# Altium integrated library Lattice CPLD ispMACH 4000C.IntLib: 180 symbols (part 7 of 28)
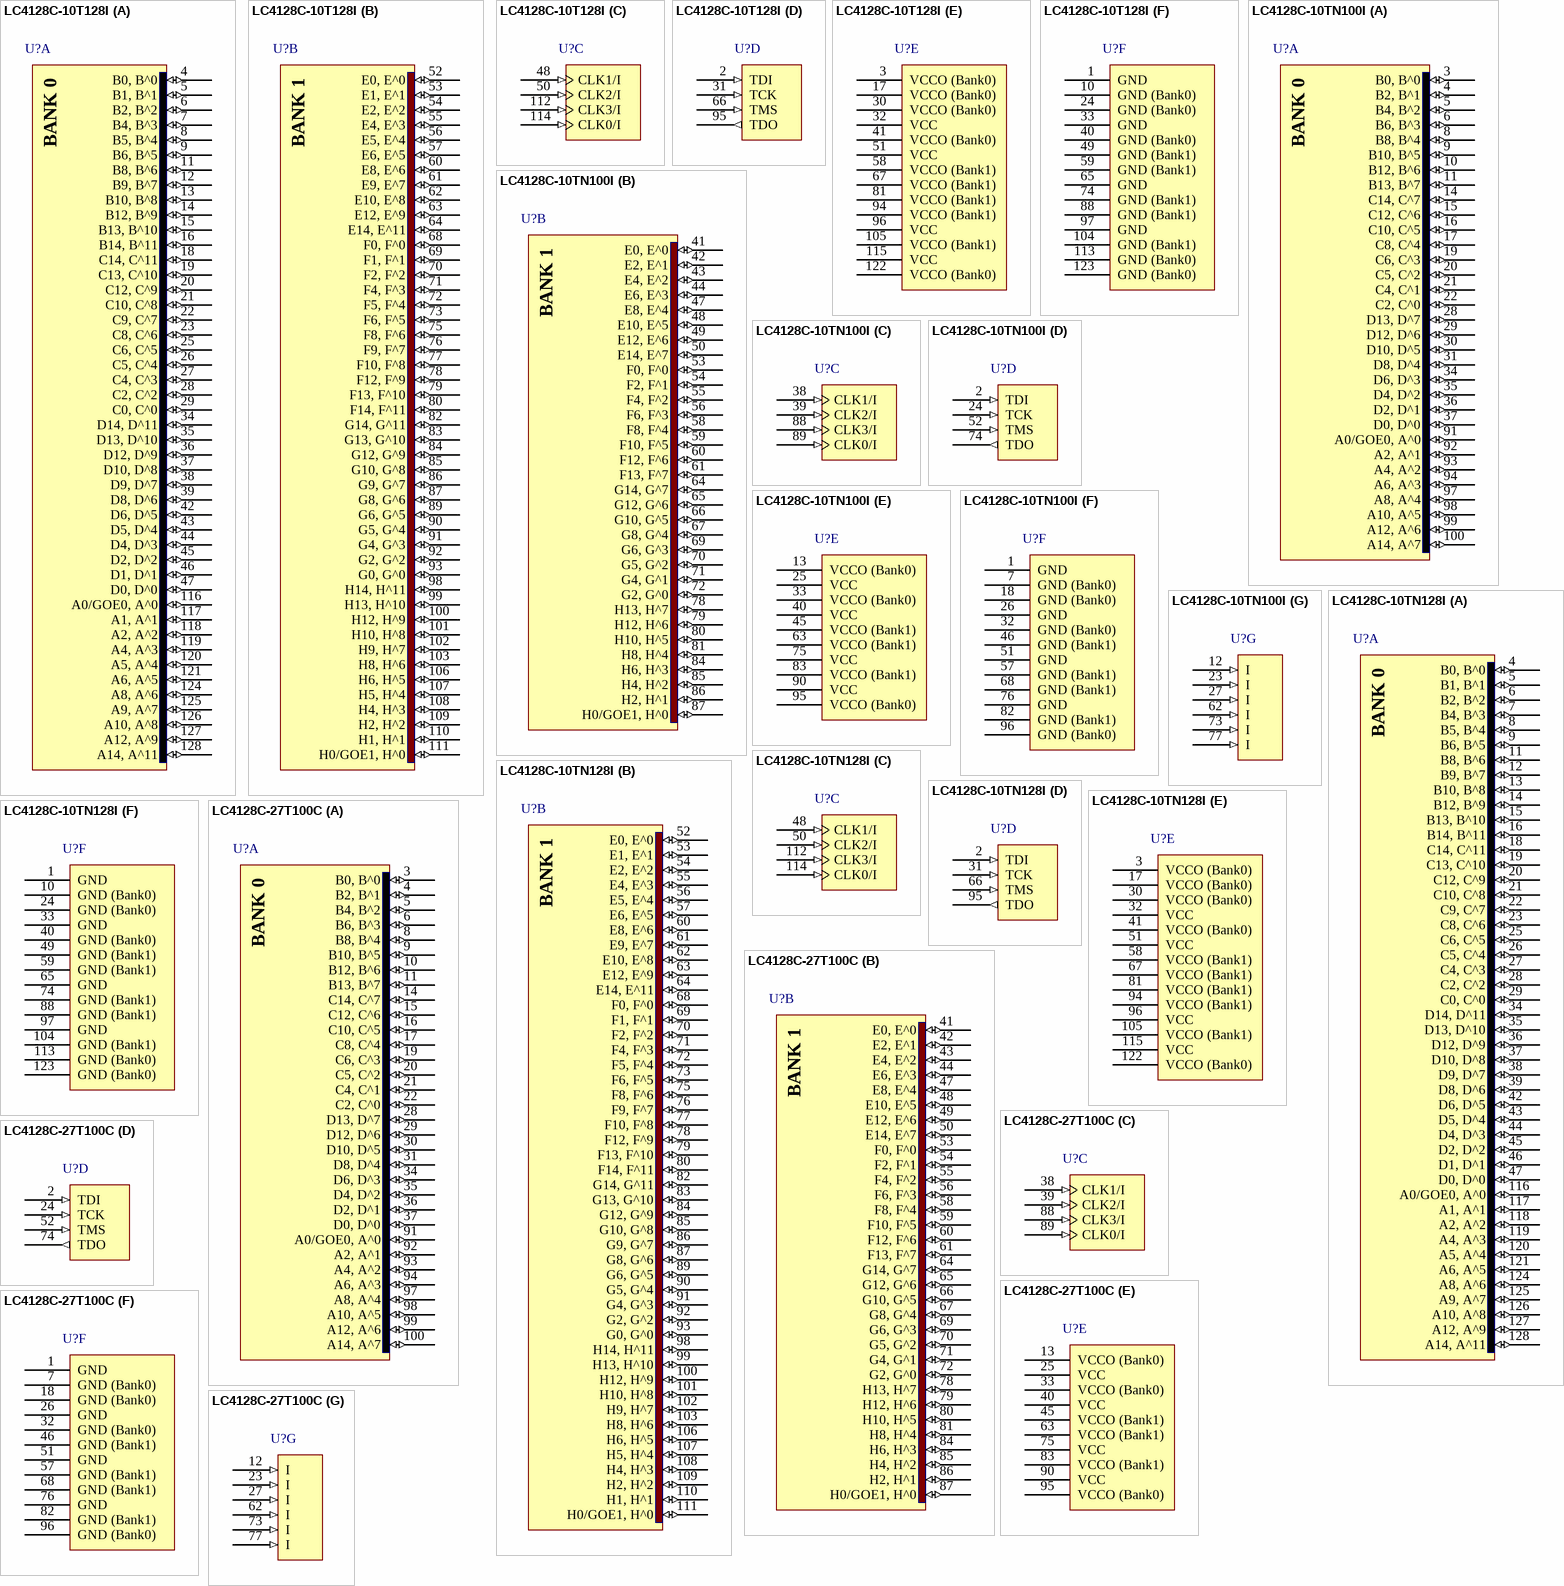
[diagram p84: symbols LC4128C-10T128I to LC4128C-27T100C]

## LC4128C-10TN128I
designator U?
ispMACH 4128 SuperFAST High Density PLD, 1.8 V, 92 User I/Os, 128-Pin Pb-Free TQFP, 10 ns, Industrial Grade; Published: 19-Mar-2004; LatestRevisionDate: 30-Mar-2007; LatestRevisionNote: Banks placed in parts.; DatasheetVersion: ver22.3, Mar-2007; PackageVersion: ver01.2 Feb-2007; PackageReference: TQFP128; Publisher: Altium Limited; PackageDescription: 128-Pin Thin Quad Flat Pack 0.4 mm Pitch (TQFP128); ComponentLink1Description: Manufacturer Link; ComponentLink1URL: http://www.latticesemi.com/; ComponentLink2Description: Datasheet; ComponentLink2URL: http://www.latticesemi.com/dynamic/view_document.cfm?document_id=3646
footprint TQFP128_N (Thin QFP, 128-Leads, Body 14x14mm, Pitch 0.4mm, IPC Medium Density)
footprint TQFP128_L (Thin QFP, 128-Leads, Body 14x14mm, Pitch 0.4mm, IPC High Density)
footprint TQFP128_M (Thin QFP, 128-Leads, Body 14x14mm, Pitch 0.4mm, IPC Low Density)
3D model 4128C-TQFP128 (128-Pin Thin Quad Flat Pack 0.4 mm Pitch (TQFP128))
part A pins: 4 B0, B^0 (io) "General purpose I/O.", 5 B1, B^1 (io) "General purpose I/O.", 6 B2, B^2 (io) "General purpose I/O.", 7 B4, B^3 (io) "General purpose I/O.", 8 B5, B^4 (io) "General purpose I/O.", 9 B6, B^5 (io) "General purpose I/O.", 11 B8, B^6 (io) "General purpose I/O.", 12 B9, B^7 (io) "General purpose I/O.", 13 B10, B^8 (io) "General purpose I/O.", 14 B12, B^9 (io) "General purpose I/O.", 15 B13, B^10 (io) "General purpose I/O.", 16 B14, B^11 (io) "General purpose I/O.", 18 C14, C^11 (io) "General purpose I/O.", 19 C13, C^10 (io) "General purpose I/O.", 20 C12, C^9 (io) "General purpose I/O.", 21 C10, C^8 (io) "General purpose I/O.", 22 C9, C^7 (io) "General purpose I/O.", 23 C8, C^6 (io) "General purpose I/O.", 25 C6, C^5 (io) "General purpose I/O.", 26 C5, C^4 (io) "General purpose I/O.", 27 C4, C^3 (io) "General purpose I/O.", 28 C2, C^2 (io) "General purpose I/O.", 29 C0, C^0 (io) "General purpose I/O.", 34 D14, D^11 (io) "General purpose I/O.", 35 D13, D^10 (io) "General purpose I/O.", 36 D12, D^9 (io) "General purpose I/O.", 37 D10, D^8 (io) "General purpose I/O.", 38 D9, D^7 (io) "General purpose I/O.", 39 D8, D^6 (io) "General purpose I/O.", 42 D6, D^5 (io) "General purpose I/O.", 43 D5, D^4 (io) "General purpose I/O.", 44 D4, D^3 (io) "General purpose I/O.", 45 D2, D^2 (io) "General purpose I/O.", 46 D1, D^1 (io) "General purpose I/O.", 47 D0, D^0 (io) "General purpose I/O.", 116 A0/GOE0, A^0 (io) "Either Global Output Enable Input or general I/O.", 117 A1, A^1 (io) "General purpose I/O.", 118 A2, A^2 (io) "General purpose I/O.", 119 A4, A^3 (io) "General purpose I/O.", 120 A5, A^4 (io) "General purpose I/O.", 121 A6, A^5 (io) "General purpose I/O.", 124 A8, A^6 (io) "General purpose I/O.", 125 A9, A^7 (io) "General purpose I/O.", 126 A10, A^8 (io) "General purpose I/O.", 127 A12, A^9 (io) "General purpose I/O.", 128 A14, A^11 (io) "General purpose I/O."
part B pins: 52 E0, E^0 (io) "General purpose I/O.", 53 E1, E^1 (io) "General purpose I/O.", 54 E2, E^2 (io) "General purpose I/O.", 55 E4, E^3 (io) "General purpose I/O.", 56 E5, E^4 (io) "General purpose I/O.", 57 E6, E^5 (io) "General purpose I/O.", 60 E8, E^6 (io) "General purpose I/O.", 61 E9, E^7 (io) "General purpose I/O.", 62 E10, E^8 (io) "General purpose I/O.", 63 E12, E^9 (io) "General purpose I/O.", 64 E14, E^11 (io) "General purpose I/O.", 68 F0, F^0 (io) "General purpose I/O.", 69 F1, F^1 (io) "General purpose I/O.", 70 F2, F^2 (io) "General purpose I/O.", 71 F4, F^3 (io) "General purpose I/O.", 72 F5, F^4 (io) "General purpose I/O.", 73 F6, F^5 (io) "General purpose I/O.", 75 F8, F^6 (io) "General purpose I/O.", 76 F9, F^7 (io) "General purpose I/O.", 77 F10, F^8 (io) "General purpose I/O.", 78 F12, F^9 (io) "General purpose I/O.", 79 F13, F^10 (io) "General purpose I/O.", 80 F14, F^11 (io) "General purpose I/O.", 82 G14, G^11 (io) "General purpose I/O.", 83 G13, G^10 (io) "General purpose I/O.", 84 G12, G^9 (io) "General purpose I/O.", 85 G10, G^8 (io) "General purpose I/O.", 86 G9, G^7 (io) "General purpose I/O.", 87 G8, G^6 (io) "General purpose I/O.", 89 G6, G^5 (io) "General purpose I/O.", 90 G5, G^4 (io) "General purpose I/O.", 91 G4, G^3 (io) "General purpose I/O.", 92 G2, G^2 (io) "General purpose I/O.", 93 G0, G^0 (io) "General purpose I/O.", 98 H14, H^11 (io) "General purpose I/O.", 99 H13, H^10 (io) "General purpose I/O.", 100 H12, H^9 (io) "General purpose I/O.", 101 H10, H^8 (io) "General purpose I/O.", 102 H9, H^7 (io) "General purpose I/O.", 103 H8, H^6 (io) "General purpose I/O.", 106 H6, H^5 (io) "General purpose I/O.", 107 H5, H^4 (io) "General purpose I/O.", 108 H4, H^3 (io) "General purpose I/O.", 109 H2, H^2 (io) "General purpose I/O.", 110 H1, H^1 (io) "General purpose I/O.", 111 H0/GOE1, H^0 (io) "Either Global Output Enable Input or general I/O."
part C pins: 48 CLK1/I (in) "Either CLK input or input.", 50 CLK2/I (in) "Either CLK input or input.", 112 CLK3/I (in) "Either CLK input or input.", 114 CLK0/I (in) "Either CLK input or input."
part D pins: 2 TDI (in) "Test Data Input. Loads data into device using 1149.1 state machine.", 31 TCK (in) "Test Clock Input for 1149.1 state machine.", 66 TMS (in) "Test Mode Select Input to control 1149.1 state machine.", 95 TDO (out) "Test Data Output. Shifts data out of device using 1149.1."
part E pins: 3 VCCO (Bank0) (power) "Power supply pin for I/O bank.", 17 VCCO (Bank0) (power) "Power supply pin for I/O bank.", 30 VCCO (Bank0) (power) "Power supply pin for I/O bank.", 32 VCC (power) "Power supply for logic core and JTAG port.", 41 VCCO (Bank0) (power) "Power supply pin for I/O bank.", 51 VCC (power) "Power supply for logic core and JTAG port.", 58 VCCO (Bank1) (power) "Power supply pin for I/O bank.", 67 VCCO (Bank1) (power) "Power supply pin for I/O bank.", 81 VCCO (Bank1) (power) "Power supply pin for I/O bank.", 94 VCCO (Bank1) (power) "Power supply pin for I/O bank.", 96 VCC (power) "Power supply for logic core and JTAG port.", 105 VCCO (Bank1) (power) "Power supply pin for I/O bank.", 115 VCC (power) "Power supply for logic core and JTAG port.", 122 VCCO (Bank0) (power) "Power supply pin for I/O bank."
part F pins: 1 GND (power) "Ground", 10 GND (Bank0) (power) "I/O Ground", 24 GND (Bank0) (power) "I/O Ground", 33 GND (power) "Ground", 40 GND (Bank0) (power) "I/O Ground", 49 GND (Bank1) (power) "I/O Ground", 59 GND (Bank1) (power) "I/O Ground", 65 GND (power) "Ground", 74 GND (Bank1) (power) "I/O Ground", 88 GND (Bank1) (power) "I/O Ground", 97 GND (power) "Ground", 104 GND (Bank1) (power) "I/O Ground", 113 GND (Bank0) (power) "I/O Ground", 123 GND (Bank0) (power) "I/O Ground"
part A text: BANK 0
part B text: BANK 1

## LC4128C-27T100C
designator U?
ispMACH 4128 SuperFAST High Density PLD, 1.8 V, 64 User I/Os, 100-Pin TQFP, 2.7 ns, Commercial Grade; Published: 17-Dec-2003; LatestRevisionDate: 30-Mar-2007; LatestRevisionNote: Banks placed in parts.; DatasheetVersion: ver22.3, Mar-2007; PackageVersion: ver01.2 Feb-2007; PackageReference: TQFP100; Publisher: Altium Limited; PackageDescription: 100-Pin Thin Quad Flat Pack (TQFP100); Code_JEDEC: MS-026-BED; ComponentLink1Description: Manufacturer Link; ComponentLink1URL: http://www.latticesemi.com/; ComponentLink2Description: Datasheet; ComponentLink2URL: http://www.latticesemi.com/dynamic/view_document.cfm?document_id=3646
footprint TQFP100_N (Thin QFP, 100-Leads, Body 14x14mm, Pitch 0.5mm, IPC Medium Density)
footprint TQFP100_L (Thin QFP, 100-Leads, Body 14x14mm, Pitch 0.5mm, IPC High Density)
footprint TQFP100_M (Thin QFP, 100-Leads, Body 14x14mm, Pitch 0.5mm, IPC Low Density)
3D model 4128C-TQFP128 (100-Pin Thin Quad Flat Pack (TQFP100))
part A pins: 3 B0, B^0 (io) "General purpose I/O.", 4 B2, B^1 (io) "General purpose I/O.", 5 B4, B^2 (io) "General purpose I/O.", 6 B6, B^3 (io) "General purpose I/O.", 8 B8, B^4 (io) "General purpose I/O.", 9 B10, B^5 (io) "General purpose I/O.", 10 B12, B^6 (io) "General purpose I/O.", 11 B13, B^7 (io) "General purpose I/O.", 14 C14, C^7 (io) "General purpose I/O.", 15 C12, C^6 (io) "General purpose I/O.", 16 C10, C^5 (io) "General purpose I/O.", 17 C8, C^4 (io) "General purpose I/O.", 19 C6, C^3 (io) "General purpose I/O.", 20 C5, C^2 (io) "General purpose I/O.", 21 C4, C^1 (io) "General purpose I/O.", 22 C2, C^0 (io) "General purpose I/O.", 28 D13, D^7 (io) "General purpose I/O.", 29 D12, D^6 (io) "General purpose I/O.", 30 D10, D^5 (io) "General purpose I/O.", 31 D8, D^4 (io) "General purpose I/O.", 34 D6, D^3 (io) "General purpose I/O.", 35 D4, D^2 (io) "General purpose I/O.", 36 D2, D^1 (io) "General purpose I/O.", 37 D0, D^0 (io) "General purpose I/O.", 91 A0/GOE0, A^0 (io) "Either Global Output Enable Input or general I/O.", 92 A2, A^1 (io) "General purpose I/O.", 93 A4, A^2 (io) "General purpose I/O.", 94 A6, A^3 (io) "General purpose I/O.", 97 A8, A^4 (io) "General purpose I/O.", 98 A10, A^5 (io) "General purpose I/O.", 99 A12, A^6 (io) "General purpose I/O.", 100 A14, A^7 (io) "General purpose I/O."
part B pins: 41 E0, E^0 (io) "General purpose I/O.", 42 E2, E^1 (io) "General purpose I/O.", 43 E4, E^2 (io) "General purpose I/O.", 44 E6, E^3 (io) "General purpose I/O.", 47 E8, E^4 (io) "General purpose I/O.", 48 E10, E^5 (io) "General purpose I/O.", 49 E12, E^6 (io) "General purpose I/O.", 50 E14, E^7 (io) "General purpose I/O.", 53 F0, F^0 (io) "General purpose I/O.", 54 F2, F^1 (io) "General purpose I/O.", 55 F4, F^2 (io) "General purpose I/O.", 56 F6, F^3 (io) "General purpose I/O.", 58 F8, F^4 (io) "General purpose I/O.", 59 F10, F^5 (io) "General purpose I/O.", 60 F12, F^6 (io) "General purpose I/O.", 61 F13, F^7 (io) "General purpose I/O.", 64 G14, G^7 (io) "General purpose I/O.", 65 G12, G^6 (io) "General purpose I/O.", 66 G10, G^5 (io) "General purpose I/O.", 67 G8, G^4 (io) "General purpose I/O.", 69 G6, G^3 (io) "General purpose I/O.", 70 G5, G^2 (io) "General purpose I/O.", 71 G4, G^1 (io) "General purpose I/O.", 72 G2, G^0 (io) "General purpose I/O.", 78 H13, H^7 (io) "General purpose I/O.", 79 H12, H^6 (io) "General purpose I/O.", 80 H10, H^5 (io) "General purpose I/O.", 81 H8, H^4 (io) "General purpose I/O.", 84 H6, H^3 (io) "General purpose I/O.", 85 H4, H^2 (io) "General purpose I/O.", 86 H2, H^1 (io) "General purpose I/O.", 87 H0/GOE1, H^0 (io) "Either Global Output Enable Input or general I/O."
part C pins: 38 CLK1/I (in) "Either CLK input or input.", 39 CLK2/I (in) "Either CLK input or input.", 88 CLK3/I (in) "Either CLK input or input.", 89 CLK0/I (in) "Either CLK input or input."
part D pins: 2 TDI (in) "Test Data Input. Loads data into device using 1149.1 state machine.", 24 TCK (in) "Test Clock Input for 1149.1 state machine.", 52 TMS (in) "Test Mode Select Input to control 1149.1 state machine.", 74 TDO (out) "Test Data Output. Shifts data out of device using 1149.1."
part E pins: 13 VCCO (Bank0) (power) "Power supply pin for I/O bank.", 25 VCC (power) "Power supply for logic core and JTAG port.", 33 VCCO (Bank0) (power) "Power supply pin for I/O bank.", 40 VCC (power) "Power supply for logic core and JTAG port.", 45 VCCO (Bank1) (power) "Power supply pin for I/O bank.", 63 VCCO (Bank1) (power) "Power supply pin for I/O bank.", 75 VCC (power) "Power supply for logic core and JTAG port.", 83 VCCO (Bank1) (power) "Power supply pin for I/O bank.", 90 VCC (power) "Power supply for logic core and JTAG port.", 95 VCCO (Bank0) (power) "Power supply pin for I/O bank."
part F pins: 1 GND (power) "Ground", 7 GND (Bank0) (power) "I/O Ground", 18 GND (Bank0) (power) "I/O Ground", 26 GND (power) "Ground", 32 GND (Bank0) (power) "I/O Ground", 46 GND (Bank1) (power) "I/O Ground", 51 GND (power) "Ground", 57 GND (Bank1) (power) "I/O Ground", 68 GND (Bank1) (power) "I/O Ground", 76 GND (power) "Ground", 82 GND (Bank1) (power) "I/O Ground", 96 GND (Bank0) (power) "I/O Ground"
part G pins: 12 I (in) "Input Signal Pin.", 23 I (in) "Input Signal Pin.", 27 I (in) "Input Signal Pin.", 62 I (in) "Input Signal Pin.", 73 I (in) "Input Signal Pin.", 77 I (in) "Input Signal Pin."
part A text: BANK 0
part B text: BANK 1

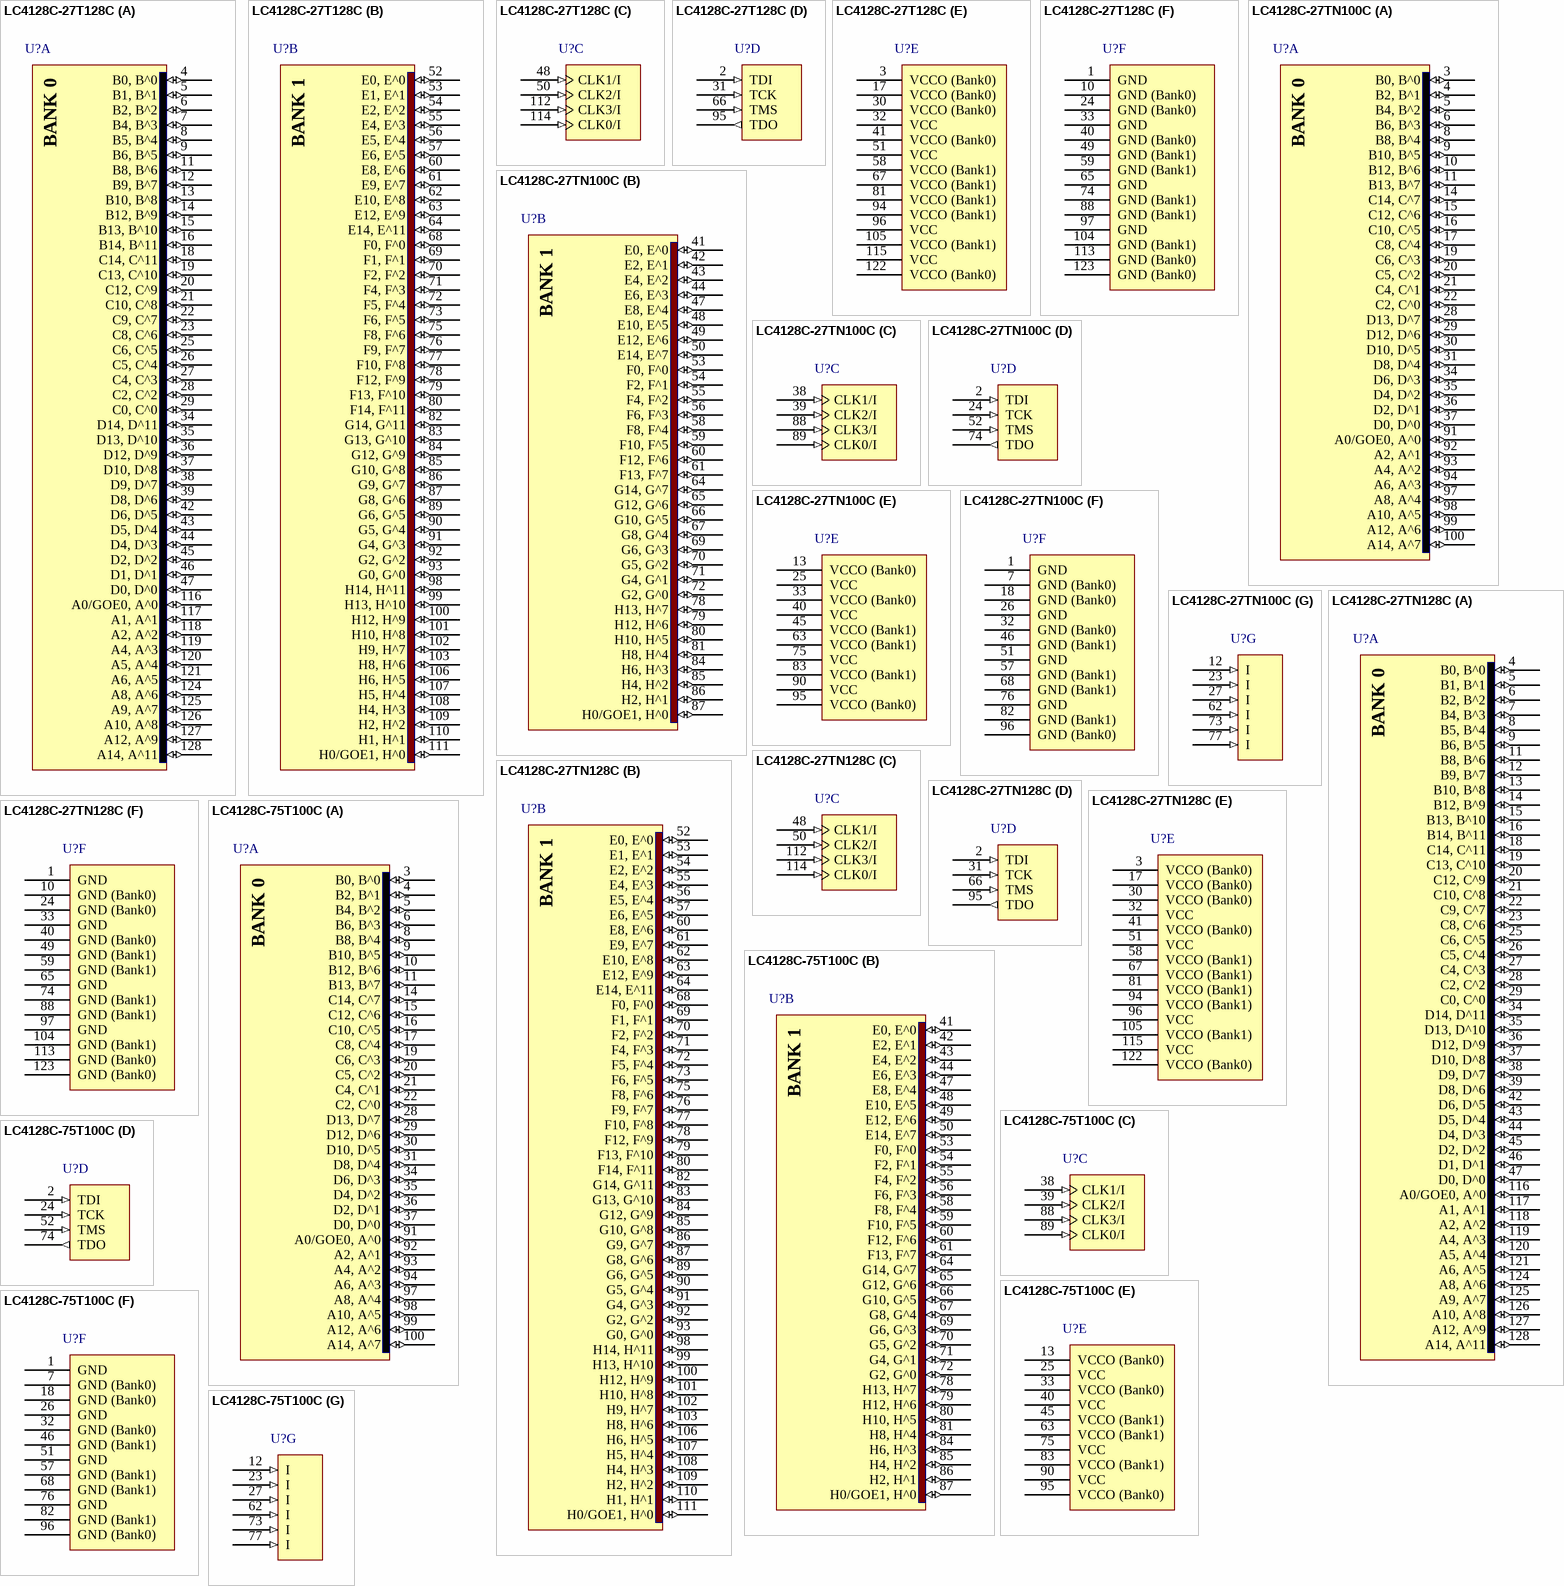
[diagram p14: symbols LC4128C-27T128C to LC4128C-75T100C]

## LC4128C-27T128C
designator U?
ispMACH 4128 SuperFAST High Density PLD, 1.8 V, 92 User I/Os, 128-Pin TQFP, 2.7 ns, Commercial Grade; Published: 17-Dec-2003; LatestRevisionDate: 30-Mar-2007; LatestRevisionNote: Banks placed in parts.; DatasheetVersion: ver22.3, Mar-2007; PackageVersion: ver01.2 Feb-2007; PackageReference: TQFP128; Publisher: Altium Limited; PackageDescription: 128-Pin Thin Quad Flat Pack 0.4 mm Pitch (TQFP128); ComponentLink1Description: Manufacturer Link; ComponentLink1URL: http://www.latticesemi.com/; ComponentLink2Description: Datasheet; ComponentLink2URL: http://www.latticesemi.com/dynamic/view_document.cfm?document_id=3646
footprint TQFP128_N (Thin QFP, 128-Leads, Body 14x14mm, Pitch 0.4mm, IPC Medium Density)
footprint TQFP128_L (Thin QFP, 128-Leads, Body 14x14mm, Pitch 0.4mm, IPC High Density)
footprint TQFP128_M (Thin QFP, 128-Leads, Body 14x14mm, Pitch 0.4mm, IPC Low Density)
3D model 4128C-TQFP128 (128-Pin Thin Quad Flat Pack 0.4 mm Pitch (TQFP128))
part A pins: 4 B0, B^0 (io) "General purpose I/O.", 5 B1, B^1 (io) "General purpose I/O.", 6 B2, B^2 (io) "General purpose I/O.", 7 B4, B^3 (io) "General purpose I/O.", 8 B5, B^4 (io) "General purpose I/O.", 9 B6, B^5 (io) "General purpose I/O.", 11 B8, B^6 (io) "General purpose I/O.", 12 B9, B^7 (io) "General purpose I/O.", 13 B10, B^8 (io) "General purpose I/O.", 14 B12, B^9 (io) "General purpose I/O.", 15 B13, B^10 (io) "General purpose I/O.", 16 B14, B^11 (io) "General purpose I/O.", 18 C14, C^11 (io) "General purpose I/O.", 19 C13, C^10 (io) "General purpose I/O.", 20 C12, C^9 (io) "General purpose I/O.", 21 C10, C^8 (io) "General purpose I/O.", 22 C9, C^7 (io) "General purpose I/O.", 23 C8, C^6 (io) "General purpose I/O.", 25 C6, C^5 (io) "General purpose I/O.", 26 C5, C^4 (io) "General purpose I/O.", 27 C4, C^3 (io) "General purpose I/O.", 28 C2, C^2 (io) "General purpose I/O.", 29 C0, C^0 (io) "General purpose I/O.", 34 D14, D^11 (io) "General purpose I/O.", 35 D13, D^10 (io) "General purpose I/O.", 36 D12, D^9 (io) "General purpose I/O.", 37 D10, D^8 (io) "General purpose I/O.", 38 D9, D^7 (io) "General purpose I/O.", 39 D8, D^6 (io) "General purpose I/O.", 42 D6, D^5 (io) "General purpose I/O.", 43 D5, D^4 (io) "General purpose I/O.", 44 D4, D^3 (io) "General purpose I/O.", 45 D2, D^2 (io) "General purpose I/O.", 46 D1, D^1 (io) "General purpose I/O.", 47 D0, D^0 (io) "General purpose I/O.", 116 A0/GOE0, A^0 (io) "Either Global Output Enable Input or general I/O.", 117 A1, A^1 (io) "General purpose I/O.", 118 A2, A^2 (io) "General purpose I/O.", 119 A4, A^3 (io) "General purpose I/O.", 120 A5, A^4 (io) "General purpose I/O.", 121 A6, A^5 (io) "General purpose I/O.", 124 A8, A^6 (io) "General purpose I/O.", 125 A9, A^7 (io) "General purpose I/O.", 126 A10, A^8 (io) "General purpose I/O.", 127 A12, A^9 (io) "General purpose I/O.", 128 A14, A^11 (io) "General purpose I/O."
part B pins: 52 E0, E^0 (io) "General purpose I/O.", 53 E1, E^1 (io) "General purpose I/O.", 54 E2, E^2 (io) "General purpose I/O.", 55 E4, E^3 (io) "General purpose I/O.", 56 E5, E^4 (io) "General purpose I/O.", 57 E6, E^5 (io) "General purpose I/O.", 60 E8, E^6 (io) "General purpose I/O.", 61 E9, E^7 (io) "General purpose I/O.", 62 E10, E^8 (io) "General purpose I/O.", 63 E12, E^9 (io) "General purpose I/O.", 64 E14, E^11 (io) "General purpose I/O.", 68 F0, F^0 (io) "General purpose I/O.", 69 F1, F^1 (io) "General purpose I/O.", 70 F2, F^2 (io) "General purpose I/O.", 71 F4, F^3 (io) "General purpose I/O.", 72 F5, F^4 (io) "General purpose I/O.", 73 F6, F^5 (io) "General purpose I/O.", 75 F8, F^6 (io) "General purpose I/O.", 76 F9, F^7 (io) "General purpose I/O.", 77 F10, F^8 (io) "General purpose I/O.", 78 F12, F^9 (io) "General purpose I/O.", 79 F13, F^10 (io) "General purpose I/O.", 80 F14, F^11 (io) "General purpose I/O.", 82 G14, G^11 (io) "General purpose I/O.", 83 G13, G^10 (io) "General purpose I/O.", 84 G12, G^9 (io) "General purpose I/O.", 85 G10, G^8 (io) "General purpose I/O.", 86 G9, G^7 (io) "General purpose I/O.", 87 G8, G^6 (io) "General purpose I/O.", 89 G6, G^5 (io) "General purpose I/O.", 90 G5, G^4 (io) "General purpose I/O.", 91 G4, G^3 (io) "General purpose I/O.", 92 G2, G^2 (io) "General purpose I/O.", 93 G0, G^0 (io) "General purpose I/O.", 98 H14, H^11 (io) "General purpose I/O.", 99 H13, H^10 (io) "General purpose I/O.", 100 H12, H^9 (io) "General purpose I/O.", 101 H10, H^8 (io) "General purpose I/O.", 102 H9, H^7 (io) "General purpose I/O.", 103 H8, H^6 (io) "General purpose I/O.", 106 H6, H^5 (io) "General purpose I/O.", 107 H5, H^4 (io) "General purpose I/O.", 108 H4, H^3 (io) "General purpose I/O.", 109 H2, H^2 (io) "General purpose I/O.", 110 H1, H^1 (io) "General purpose I/O.", 111 H0/GOE1, H^0 (io) "Either Global Output Enable Input or general I/O."
part C pins: 48 CLK1/I (in) "Either CLK input or input.", 50 CLK2/I (in) "Either CLK input or input.", 112 CLK3/I (in) "Either CLK input or input.", 114 CLK0/I (in) "Either CLK input or input."
part D pins: 2 TDI (in) "Test Data Input. Loads data into device using 1149.1 state machine.", 31 TCK (in) "Test Clock Input for 1149.1 state machine.", 66 TMS (in) "Test Mode Select Input to control 1149.1 state machine.", 95 TDO (out) "Test Data Output. Shifts data out of device using 1149.1."
part E pins: 3 VCCO (Bank0) (power) "Power supply pin for I/O bank.", 17 VCCO (Bank0) (power) "Power supply pin for I/O bank.", 30 VCCO (Bank0) (power) "Power supply pin for I/O bank.", 32 VCC (power) "Power supply for logic core and JTAG port.", 41 VCCO (Bank0) (power) "Power supply pin for I/O bank.", 51 VCC (power) "Power supply for logic core and JTAG port.", 58 VCCO (Bank1) (power) "Power supply pin for I/O bank.", 67 VCCO (Bank1) (power) "Power supply pin for I/O bank.", 81 VCCO (Bank1) (power) "Power supply pin for I/O bank.", 94 VCCO (Bank1) (power) "Power supply pin for I/O bank.", 96 VCC (power) "Power supply for logic core and JTAG port.", 105 VCCO (Bank1) (power) "Power supply pin for I/O bank.", 115 VCC (power) "Power supply for logic core and JTAG port.", 122 VCCO (Bank0) (power) "Power supply pin for I/O bank."
part F pins: 1 GND (power) "Ground", 10 GND (Bank0) (power) "I/O Ground", 24 GND (Bank0) (power) "I/O Ground", 33 GND (power) "Ground", 40 GND (Bank0) (power) "I/O Ground", 49 GND (Bank1) (power) "I/O Ground", 59 GND (Bank1) (power) "I/O Ground", 65 GND (power) "Ground", 74 GND (Bank1) (power) "I/O Ground", 88 GND (Bank1) (power) "I/O Ground", 97 GND (power) "Ground", 104 GND (Bank1) (power) "I/O Ground", 113 GND (Bank0) (power) "I/O Ground", 123 GND (Bank0) (power) "I/O Ground"
part A text: BANK 0
part B text: BANK 1

## LC4128C-27TN100C
designator U?
ispMACH 4128 SuperFAST High Density PLD, 1.8 V, 64 User I/Os, 100-Pin Pb-Free TQFP, 2.7 ns, Commercial Grade; Published: 19-Mar-2004; LatestRevisionDate: 30-Mar-2007; LatestRevisionNote: Banks placed in parts.; DatasheetVersion: ver22.3, Mar-2007; PackageVersion: ver01.2 Feb-2007; PackageReference: TQFP100; Publisher: Altium Limited; PackageDescription: 100-Pin Thin Quad Flat Pack (TQFP100); Code_JEDEC: MS-026-BED; ComponentLink1Description: Manufacturer Link; ComponentLink1URL: http://www.latticesemi.com/; ComponentLink2Description: Datasheet; ComponentLink2URL: http://www.latticesemi.com/dynamic/view_document.cfm?document_id=3646
footprint TQFP100_N (Thin QFP, 100-Leads, Body 14x14mm, Pitch 0.5mm, IPC Medium Density)
footprint TQFP100_L (Thin QFP, 100-Leads, Body 14x14mm, Pitch 0.5mm, IPC High Density)
footprint TQFP100_M (Thin QFP, 100-Leads, Body 14x14mm, Pitch 0.5mm, IPC Low Density)
3D model 4128C-TQFP100 (100-Pin Thin Quad Flat Pack (TQFP100))
part A pins: 3 B0, B^0 (io) "General purpose I/O.", 4 B2, B^1 (io) "General purpose I/O.", 5 B4, B^2 (io) "General purpose I/O.", 6 B6, B^3 (io) "General purpose I/O.", 8 B8, B^4 (io) "General purpose I/O.", 9 B10, B^5 (io) "General purpose I/O.", 10 B12, B^6 (io) "General purpose I/O.", 11 B13, B^7 (io) "General purpose I/O.", 14 C14, C^7 (io) "General purpose I/O.", 15 C12, C^6 (io) "General purpose I/O.", 16 C10, C^5 (io) "General purpose I/O.", 17 C8, C^4 (io) "General purpose I/O.", 19 C6, C^3 (io) "General purpose I/O.", 20 C5, C^2 (io) "General purpose I/O.", 21 C4, C^1 (io) "General purpose I/O.", 22 C2, C^0 (io) "General purpose I/O.", 28 D13, D^7 (io) "General purpose I/O.", 29 D12, D^6 (io) "General purpose I/O.", 30 D10, D^5 (io) "General purpose I/O.", 31 D8, D^4 (io) "General purpose I/O.", 34 D6, D^3 (io) "General purpose I/O.", 35 D4, D^2 (io) "General purpose I/O.", 36 D2, D^1 (io) "General purpose I/O.", 37 D0, D^0 (io) "General purpose I/O.", 91 A0/GOE0, A^0 (io) "Either Global Output Enable Input or general I/O.", 92 A2, A^1 (io) "General purpose I/O.", 93 A4, A^2 (io) "General purpose I/O.", 94 A6, A^3 (io) "General purpose I/O.", 97 A8, A^4 (io) "General purpose I/O.", 98 A10, A^5 (io) "General purpose I/O.", 99 A12, A^6 (io) "General purpose I/O.", 100 A14, A^7 (io) "General purpose I/O."
part B pins: 41 E0, E^0 (io) "General purpose I/O.", 42 E2, E^1 (io) "General purpose I/O.", 43 E4, E^2 (io) "General purpose I/O.", 44 E6, E^3 (io) "General purpose I/O.", 47 E8, E^4 (io) "General purpose I/O.", 48 E10, E^5 (io) "General purpose I/O.", 49 E12, E^6 (io) "General purpose I/O.", 50 E14, E^7 (io) "General purpose I/O.", 53 F0, F^0 (io) "General purpose I/O.", 54 F2, F^1 (io) "General purpose I/O.", 55 F4, F^2 (io) "General purpose I/O.", 56 F6, F^3 (io) "General purpose I/O.", 58 F8, F^4 (io) "General purpose I/O.", 59 F10, F^5 (io) "General purpose I/O.", 60 F12, F^6 (io) "General purpose I/O.", 61 F13, F^7 (io) "General purpose I/O.", 64 G14, G^7 (io) "General purpose I/O.", 65 G12, G^6 (io) "General purpose I/O.", 66 G10, G^5 (io) "General purpose I/O.", 67 G8, G^4 (io) "General purpose I/O.", 69 G6, G^3 (io) "General purpose I/O.", 70 G5, G^2 (io) "General purpose I/O.", 71 G4, G^1 (io) "General purpose I/O.", 72 G2, G^0 (io) "General purpose I/O.", 78 H13, H^7 (io) "General purpose I/O.", 79 H12, H^6 (io) "General purpose I/O.", 80 H10, H^5 (io) "General purpose I/O.", 81 H8, H^4 (io) "General purpose I/O.", 84 H6, H^3 (io) "General purpose I/O.", 85 H4, H^2 (io) "General purpose I/O.", 86 H2, H^1 (io) "General purpose I/O.", 87 H0/GOE1, H^0 (io) "Either Global Output Enable Input or general I/O."
part C pins: 38 CLK1/I (in) "Either CLK input or input.", 39 CLK2/I (in) "Either CLK input or input.", 88 CLK3/I (in) "Either CLK input or input.", 89 CLK0/I (in) "Either CLK input or input."
part D pins: 2 TDI (in) "Test Data Input. Loads data into device using 1149.1 state machine.", 24 TCK (in) "Test Clock Input for 1149.1 state machine.", 52 TMS (in) "Test Mode Select Input to control 1149.1 state machine.", 74 TDO (out) "Test Data Output. Shifts data out of device using 1149.1."
part E pins: 13 VCCO (Bank0) (power) "Power supply pin for I/O bank.", 25 VCC (power) "Power supply for logic core and JTAG port.", 33 VCCO (Bank0) (power) "Power supply pin for I/O bank.", 40 VCC (power) "Power supply for logic core and JTAG port.", 45 VCCO (Bank1) (power) "Power supply pin for I/O bank.", 63 VCCO (Bank1) (power) "Power supply pin for I/O bank.", 75 VCC (power) "Power supply for logic core and JTAG port.", 83 VCCO (Bank1) (power) "Power supply pin for I/O bank.", 90 VCC (power) "Power supply for logic core and JTAG port.", 95 VCCO (Bank0) (power) "Power supply pin for I/O bank."
part F pins: 1 GND (power) "Ground", 7 GND (Bank0) (power) "I/O Ground", 18 GND (Bank0) (power) "I/O Ground", 26 GND (power) "Ground", 32 GND (Bank0) (power) "I/O Ground", 46 GND (Bank1) (power) "I/O Ground", 51 GND (power) "Ground", 57 GND (Bank1) (power) "I/O Ground", 68 GND (Bank1) (power) "I/O Ground", 76 GND (power) "Ground", 82 GND (Bank1) (power) "I/O Ground", 96 GND (Bank0) (power) "I/O Ground"
part G pins: 12 I (in) "Input Signal Pin.", 23 I (in) "Input Signal Pin.", 27 I (in) "Input Signal Pin.", 62 I (in) "Input Signal Pin.", 73 I (in) "Input Signal Pin.", 77 I (in) "Input Signal Pin."
part A text: BANK 0
part B text: BANK 1

## LC4128C-27TN128C
designator U?
ispMACH 4128 SuperFAST High Density PLD, 1.8 V, 92 User I/Os, 128-Pin Pb-Free TQFP, 2.7 ns, Commercial Grade; Published: 19-Mar-2004; LatestRevisionDate: 30-Mar-2007; LatestRevisionNote: Banks placed in parts.; DatasheetVersion: ver22.3, Mar-2007; PackageVersion: ver01.2 Feb-2007; PackageReference: TQFP128; Publisher: Altium Limited; PackageDescription: 128-Pin Thin Quad Flat Pack 0.4 mm Pitch (TQFP128); ComponentLink1Description: Manufacturer Link; ComponentLink1URL: http://www.latticesemi.com/; ComponentLink2Description: Datasheet; ComponentLink2URL: http://www.latticesemi.com/dynamic/view_document.cfm?document_id=3646
footprint TQFP128_N (Thin QFP, 128-Leads, Body 14x14mm, Pitch 0.4mm, IPC Medium Density)
footprint TQFP128_L (Thin QFP, 128-Leads, Body 14x14mm, Pitch 0.4mm, IPC High Density)
footprint TQFP128_M (Thin QFP, 128-Leads, Body 14x14mm, Pitch 0.4mm, IPC Low Density)
3D model 4128C-TQFP128 (128-Pin Thin Quad Flat Pack 0.4 mm Pitch (TQFP128))
part A pins: 4 B0, B^0 (io) "General purpose I/O.", 5 B1, B^1 (io) "General purpose I/O.", 6 B2, B^2 (io) "General purpose I/O.", 7 B4, B^3 (io) "General purpose I/O.", 8 B5, B^4 (io) "General purpose I/O.", 9 B6, B^5 (io) "General purpose I/O.", 11 B8, B^6 (io) "General purpose I/O.", 12 B9, B^7 (io) "General purpose I/O.", 13 B10, B^8 (io) "General purpose I/O.", 14 B12, B^9 (io) "General purpose I/O.", 15 B13, B^10 (io) "General purpose I/O.", 16 B14, B^11 (io) "General purpose I/O.", 18 C14, C^11 (io) "General purpose I/O.", 19 C13, C^10 (io) "General purpose I/O.", 20 C12, C^9 (io) "General purpose I/O.", 21 C10, C^8 (io) "General purpose I/O.", 22 C9, C^7 (io) "General purpose I/O.", 23 C8, C^6 (io) "General purpose I/O.", 25 C6, C^5 (io) "General purpose I/O.", 26 C5, C^4 (io) "General purpose I/O.", 27 C4, C^3 (io) "General purpose I/O.", 28 C2, C^2 (io) "General purpose I/O.", 29 C0, C^0 (io) "General purpose I/O.", 34 D14, D^11 (io) "General purpose I/O.", 35 D13, D^10 (io) "General purpose I/O.", 36 D12, D^9 (io) "General purpose I/O.", 37 D10, D^8 (io) "General purpose I/O.", 38 D9, D^7 (io) "General purpose I/O.", 39 D8, D^6 (io) "General purpose I/O.", 42 D6, D^5 (io) "General purpose I/O.", 43 D5, D^4 (io) "General purpose I/O.", 44 D4, D^3 (io) "General purpose I/O.", 45 D2, D^2 (io) "General purpose I/O.", 46 D1, D^1 (io) "General purpose I/O.", 47 D0, D^0 (io) "General purpose I/O.", 116 A0/GOE0, A^0 (io) "Either Global Output Enable Input or general I/O.", 117 A1, A^1 (io) "General purpose I/O.", 118 A2, A^2 (io) "General purpose I/O.", 119 A4, A^3 (io) "General purpose I/O.", 120 A5, A^4 (io) "General purpose I/O.", 121 A6, A^5 (io) "General purpose I/O.", 124 A8, A^6 (io) "General purpose I/O.", 125 A9, A^7 (io) "General purpose I/O.", 126 A10, A^8 (io) "General purpose I/O.", 127 A12, A^9 (io) "General purpose I/O.", 128 A14, A^11 (io) "General purpose I/O."
part B pins: 52 E0, E^0 (io) "General purpose I/O.", 53 E1, E^1 (io) "General purpose I/O.", 54 E2, E^2 (io) "General purpose I/O.", 55 E4, E^3 (io) "General purpose I/O.", 56 E5, E^4 (io) "General purpose I/O.", 57 E6, E^5 (io) "General purpose I/O.", 60 E8, E^6 (io) "General purpose I/O.", 61 E9, E^7 (io) "General purpose I/O.", 62 E10, E^8 (io) "General purpose I/O.", 63 E12, E^9 (io) "General purpose I/O.", 64 E14, E^11 (io) "General purpose I/O.", 68 F0, F^0 (io) "General purpose I/O.", 69 F1, F^1 (io) "General purpose I/O.", 70 F2, F^2 (io) "General purpose I/O.", 71 F4, F^3 (io) "General purpose I/O.", 72 F5, F^4 (io) "General purpose I/O.", 73 F6, F^5 (io) "General purpose I/O.", 75 F8, F^6 (io) "General purpose I/O.", 76 F9, F^7 (io) "General purpose I/O.", 77 F10, F^8 (io) "General purpose I/O.", 78 F12, F^9 (io) "General purpose I/O.", 79 F13, F^10 (io) "General purpose I/O.", 80 F14, F^11 (io) "General purpose I/O.", 82 G14, G^11 (io) "General purpose I/O.", 83 G13, G^10 (io) "General purpose I/O.", 84 G12, G^9 (io) "General purpose I/O.", 85 G10, G^8 (io) "General purpose I/O.", 86 G9, G^7 (io) "General purpose I/O.", 87 G8, G^6 (io) "General purpose I/O.", 89 G6, G^5 (io) "General purpose I/O.", 90 G5, G^4 (io) "General purpose I/O.", 91 G4, G^3 (io) "General purpose I/O.", 92 G2, G^2 (io) "General purpose I/O.", 93 G0, G^0 (io) "General purpose I/O.", 98 H14, H^11 (io) "General purpose I/O.", 99 H13, H^10 (io) "General purpose I/O.", 100 H12, H^9 (io) "General purpose I/O.", 101 H10, H^8 (io) "General purpose I/O.", 102 H9, H^7 (io) "General purpose I/O.", 103 H8, H^6 (io) "General purpose I/O.", 106 H6, H^5 (io) "General purpose I/O.", 107 H5, H^4 (io) "General purpose I/O.", 108 H4, H^3 (io) "General purpose I/O.", 109 H2, H^2 (io) "General purpose I/O.", 110 H1, H^1 (io) "General purpose I/O.", 111 H0/GOE1, H^0 (io) "Either Global Output Enable Input or general I/O."
part C pins: 48 CLK1/I (in) "Either CLK input or input.", 50 CLK2/I (in) "Either CLK input or input.", 112 CLK3/I (in) "Either CLK input or input.", 114 CLK0/I (in) "Either CLK input or input."
part D pins: 2 TDI (in) "Test Data Input. Loads data into device using 1149.1 state machine.", 31 TCK (in) "Test Clock Input for 1149.1 state machine.", 66 TMS (in) "Test Mode Select Input to control 1149.1 state machine.", 95 TDO (out) "Test Data Output. Shifts data out of device using 1149.1."
part E pins: 3 VCCO (Bank0) (power) "Power supply pin for I/O bank.", 17 VCCO (Bank0) (power) "Power supply pin for I/O bank.", 30 VCCO (Bank0) (power) "Power supply pin for I/O bank.", 32 VCC (power) "Power supply for logic core and JTAG port.", 41 VCCO (Bank0) (power) "Power supply pin for I/O bank.", 51 VCC (power) "Power supply for logic core and JTAG port.", 58 VCCO (Bank1) (power) "Power supply pin for I/O bank.", 67 VCCO (Bank1) (power) "Power supply pin for I/O bank.", 81 VCCO (Bank1) (power) "Power supply pin for I/O bank.", 94 VCCO (Bank1) (power) "Power supply pin for I/O bank.", 96 VCC (power) "Power supply for logic core and JTAG port.", 105 VCCO (Bank1) (power) "Power supply pin for I/O bank.", 115 VCC (power) "Power supply for logic core and JTAG port.", 122 VCCO (Bank0) (power) "Power supply pin for I/O bank."
part F pins: 1 GND (power) "Ground", 10 GND (Bank0) (power) "I/O Ground", 24 GND (Bank0) (power) "I/O Ground", 33 GND (power) "Ground", 40 GND (Bank0) (power) "I/O Ground", 49 GND (Bank1) (power) "I/O Ground", 59 GND (Bank1) (power) "I/O Ground", 65 GND (power) "Ground", 74 GND (Bank1) (power) "I/O Ground", 88 GND (Bank1) (power) "I/O Ground", 97 GND (power) "Ground", 104 GND (Bank1) (power) "I/O Ground", 113 GND (Bank0) (power) "I/O Ground", 123 GND (Bank0) (power) "I/O Ground"
part A text: BANK 0
part B text: BANK 1

## LC4128C-75T100C
designator U?
ispMACH 4128 SuperFAST High Density PLD, 1.8 V, 64 User I/Os, 100-Pin TQFP, 7.5 ns, Commercial Grade; Published: 17-Dec-2003; LatestRevisionDate: 30-Mar-2007; LatestRevisionNote: Banks placed in parts.; DatasheetVersion: ver22.3, Mar-2007; PackageVersion: ver01.2 Feb-2007; PackageReference: TQFP100; Publisher: Altium Limited; PackageDescription: 100-Pin Thin Quad Flat Pack (TQFP100); Code_JEDEC: MS-026-BED; ComponentLink1Description: Manufacturer Link; ComponentLink1URL: http://www.latticesemi.com/; ComponentLink2Description: Datasheet; ComponentLink2URL: http://www.latticesemi.com/dynamic/view_document.cfm?document_id=3646
footprint TQFP100_N (Thin QFP, 100-Leads, Body 14x14mm, Pitch 0.5mm, IPC Medium Density)
footprint TQFP100_L (Thin QFP, 100-Leads, Body 14x14mm, Pitch 0.5mm, IPC High Density)
footprint TQFP100_M (Thin QFP, 100-Leads, Body 14x14mm, Pitch 0.5mm, IPC Low Density)
3D model 4128C-TQFP128 (100-Pin Thin Quad Flat Pack (TQFP100))
part A pins: 3 B0, B^0 (io) "General purpose I/O.", 4 B2, B^1 (io) "General purpose I/O.", 5 B4, B^2 (io) "General purpose I/O.", 6 B6, B^3 (io) "General purpose I/O.", 8 B8, B^4 (io) "General purpose I/O.", 9 B10, B^5 (io) "General purpose I/O.", 10 B12, B^6 (io) "General purpose I/O.", 11 B13, B^7 (io) "General purpose I/O.", 14 C14, C^7 (io) "General purpose I/O.", 15 C12, C^6 (io) "General purpose I/O.", 16 C10, C^5 (io) "General purpose I/O.", 17 C8, C^4 (io) "General purpose I/O.", 19 C6, C^3 (io) "General purpose I/O.", 20 C5, C^2 (io) "General purpose I/O.", 21 C4, C^1 (io) "General purpose I/O.", 22 C2, C^0 (io) "General purpose I/O.", 28 D13, D^7 (io) "General purpose I/O.", 29 D12, D^6 (io) "General purpose I/O.", 30 D10, D^5 (io) "General purpose I/O.", 31 D8, D^4 (io) "General purpose I/O.", 34 D6, D^3 (io) "General purpose I/O.", 35 D4, D^2 (io) "General purpose I/O.", 36 D2, D^1 (io) "General purpose I/O.", 37 D0, D^0 (io) "General purpose I/O.", 91 A0/GOE0, A^0 (io) "Either Global Output Enable Input or general I/O.", 92 A2, A^1 (io) "General purpose I/O.", 93 A4, A^2 (io) "General purpose I/O.", 94 A6, A^3 (io) "General purpose I/O.", 97 A8, A^4 (io) "General purpose I/O.", 98 A10, A^5 (io) "General purpose I/O.", 99 A12, A^6 (io) "General purpose I/O.", 100 A14, A^7 (io) "General purpose I/O."
part B pins: 41 E0, E^0 (io) "General purpose I/O.", 42 E2, E^1 (io) "General purpose I/O.", 43 E4, E^2 (io) "General purpose I/O.", 44 E6, E^3 (io) "General purpose I/O.", 47 E8, E^4 (io) "General purpose I/O.", 48 E10, E^5 (io) "General purpose I/O.", 49 E12, E^6 (io) "General purpose I/O.", 50 E14, E^7 (io) "General purpose I/O.", 53 F0, F^0 (io) "General purpose I/O.", 54 F2, F^1 (io) "General purpose I/O.", 55 F4, F^2 (io) "General purpose I/O.", 56 F6, F^3 (io) "General purpose I/O.", 58 F8, F^4 (io) "General purpose I/O.", 59 F10, F^5 (io) "General purpose I/O.", 60 F12, F^6 (io) "General purpose I/O.", 61 F13, F^7 (io) "General purpose I/O.", 64 G14, G^7 (io) "General purpose I/O.", 65 G12, G^6 (io) "General purpose I/O.", 66 G10, G^5 (io) "General purpose I/O.", 67 G8, G^4 (io) "General purpose I/O.", 69 G6, G^3 (io) "General purpose I/O.", 70 G5, G^2 (io) "General purpose I/O.", 71 G4, G^1 (io) "General purpose I/O.", 72 G2, G^0 (io) "General purpose I/O.", 78 H13, H^7 (io) "General purpose I/O.", 79 H12, H^6 (io) "General purpose I/O.", 80 H10, H^5 (io) "General purpose I/O.", 81 H8, H^4 (io) "General purpose I/O.", 84 H6, H^3 (io) "General purpose I/O.", 85 H4, H^2 (io) "General purpose I/O.", 86 H2, H^1 (io) "General purpose I/O.", 87 H0/GOE1, H^0 (io) "Either Global Output Enable Input or general I/O."
part C pins: 38 CLK1/I (in) "Either CLK input or input.", 39 CLK2/I (in) "Either CLK input or input.", 88 CLK3/I (in) "Either CLK input or input.", 89 CLK0/I (in) "Either CLK input or input."
part D pins: 2 TDI (in) "Test Data Input. Loads data into device using 1149.1 state machine.", 24 TCK (in) "Test Clock Input for 1149.1 state machine.", 52 TMS (in) "Test Mode Select Input to control 1149.1 state machine.", 74 TDO (out) "Test Data Output. Shifts data out of device using 1149.1."
part E pins: 13 VCCO (Bank0) (power) "Power supply pin for I/O bank.", 25 VCC (power) "Power supply for logic core and JTAG port.", 33 VCCO (Bank0) (power) "Power supply pin for I/O bank.", 40 VCC (power) "Power supply for logic core and JTAG port.", 45 VCCO (Bank1) (power) "Power supply pin for I/O bank.", 63 VCCO (Bank1) (power) "Power supply pin for I/O bank.", 75 VCC (power) "Power supply for logic core and JTAG port.", 83 VCCO (Bank1) (power) "Power supply pin for I/O bank.", 90 VCC (power) "Power supply for logic core and JTAG port.", 95 VCCO (Bank0) (power) "Power supply pin for I/O bank."
part F pins: 1 GND (power) "Ground", 7 GND (Bank0) (power) "I/O Ground", 18 GND (Bank0) (power) "I/O Ground", 26 GND (power) "Ground", 32 GND (Bank0) (power) "I/O Ground", 46 GND (Bank1) (power) "I/O Ground", 51 GND (power) "Ground", 57 GND (Bank1) (power) "I/O Ground", 68 GND (Bank1) (power) "I/O Ground", 76 GND (power) "Ground", 82 GND (Bank1) (power) "I/O Ground", 96 GND (Bank0) (power) "I/O Ground"
part G pins: 12 I (in) "Input Signal Pin.", 23 I (in) "Input Signal Pin.", 27 I (in) "Input Signal Pin.", 62 I (in) "Input Signal Pin.", 73 I (in) "Input Signal Pin.", 77 I (in) "Input Signal Pin."
part A text: BANK 0
part B text: BANK 1

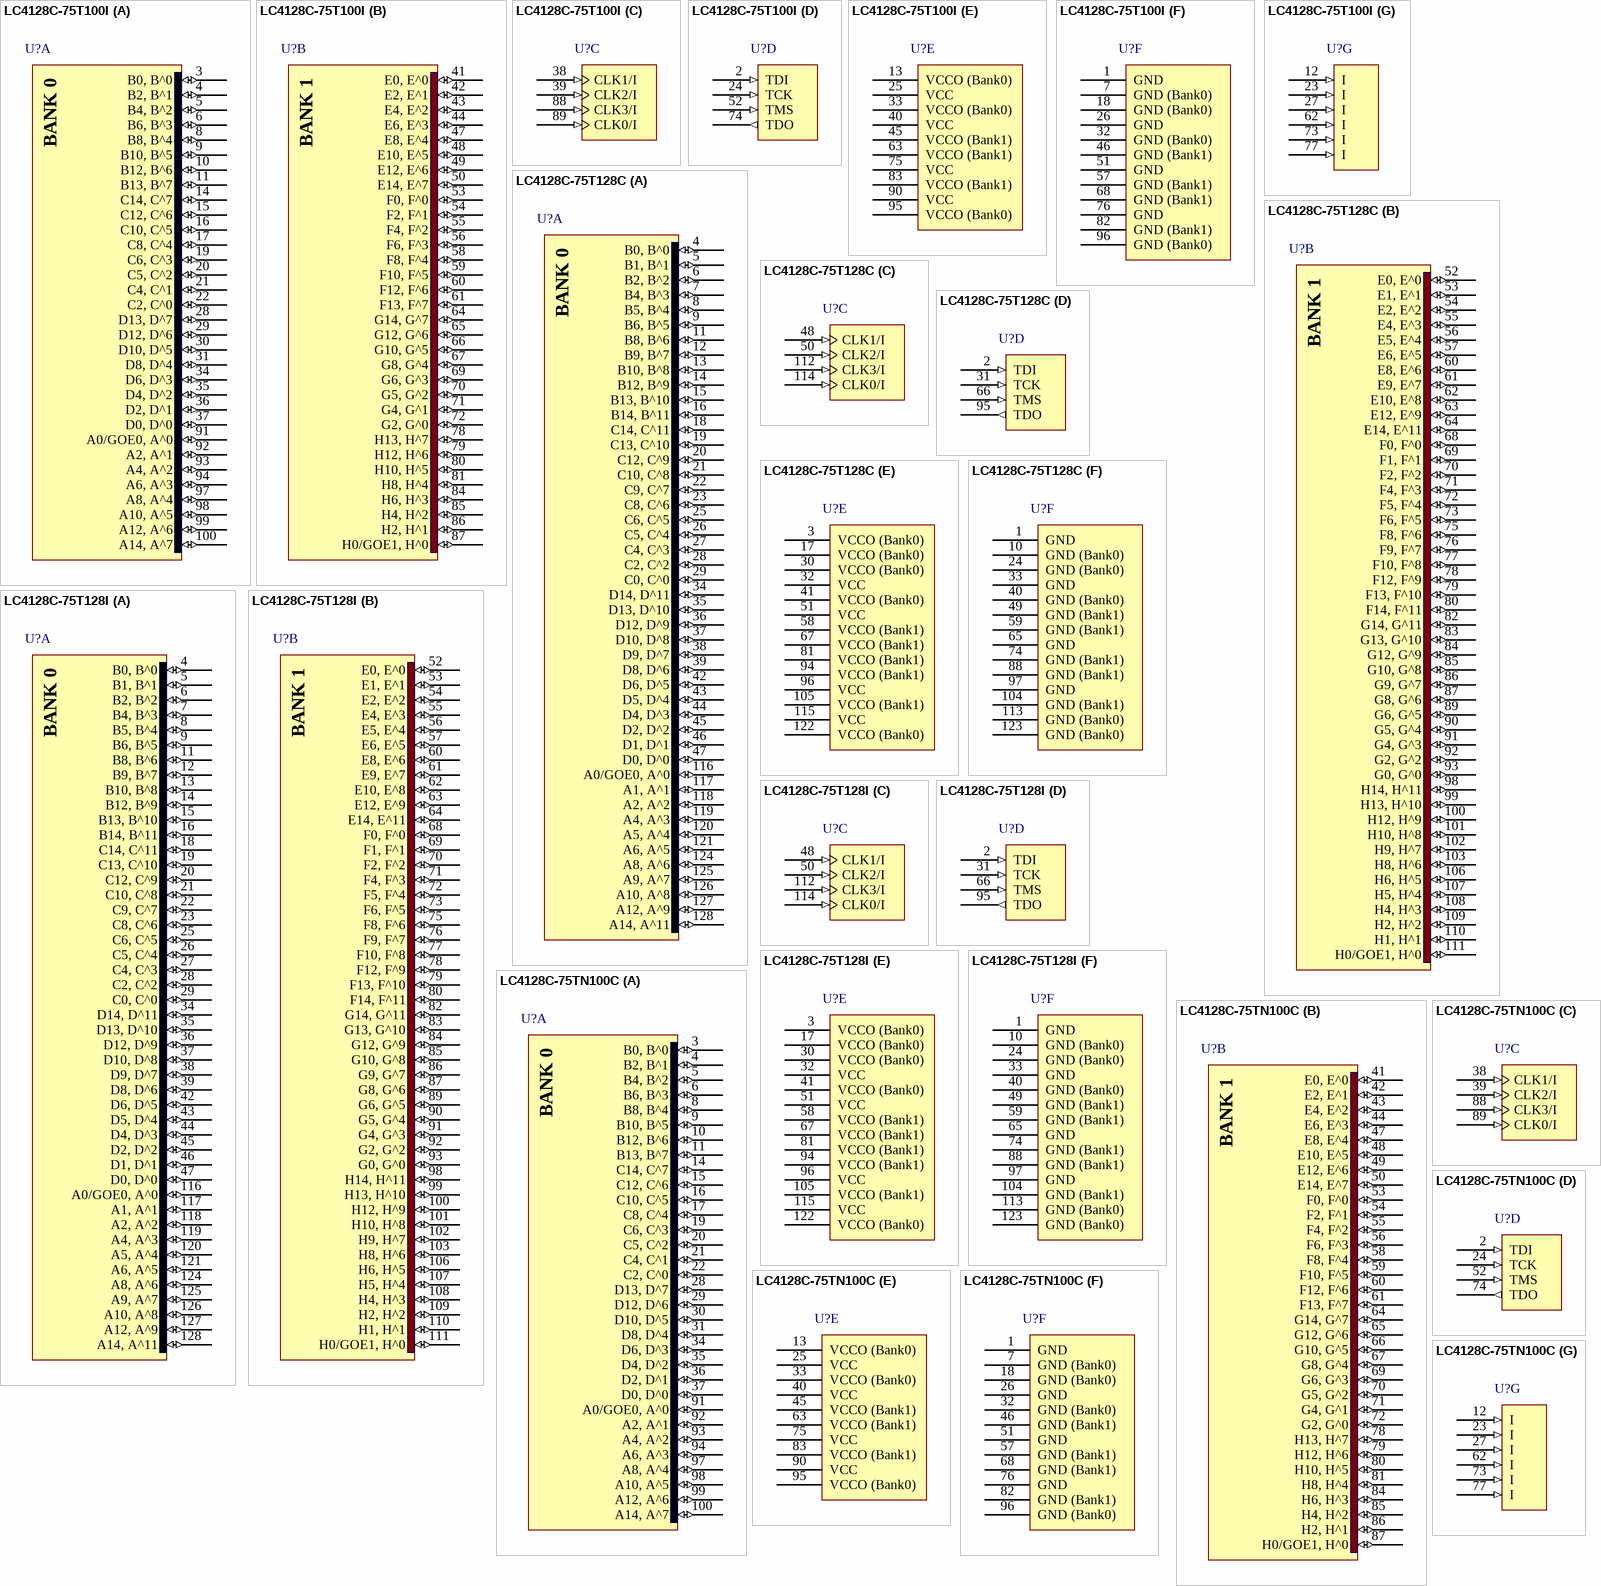
[diagram p15: symbols LC4128C-75T100I to LC4128C-75TN100C]

## LC4128C-75T100I
designator U?
ispMACH 4128 SuperFAST High Density PLD, 1.8 V, 64 User I/Os, 100-Pin TQFP, 7.5 ns, Industrial Grade; Published: 17-Dec-2003; LatestRevisionDate: 30-Mar-2007; LatestRevisionNote: Banks placed in parts.; DatasheetVersion: ver22.3, Mar-2007; PackageVersion: ver01.2 Feb-2007; PackageReference: TQFP100; Publisher: Altium Limited; PackageDescription: 100-Pin Thin Quad Flat Pack (TQFP100); Code_JEDEC: MS-026-BED; ComponentLink1Description: Manufacturer Link; ComponentLink1URL: http://www.latticesemi.com/; ComponentLink2Description: Datasheet; ComponentLink2URL: http://www.latticesemi.com/dynamic/view_document.cfm?document_id=3646
footprint TQFP100_N (Thin QFP, 100-Leads, Body 14x14mm, Pitch 0.5mm, IPC Medium Density)
footprint TQFP100_L (Thin QFP, 100-Leads, Body 14x14mm, Pitch 0.5mm, IPC High Density)
footprint TQFP100_M (Thin QFP, 100-Leads, Body 14x14mm, Pitch 0.5mm, IPC Low Density)
3D model 4128C-TQFP100 (100-Pin Thin Quad Flat Pack (TQFP100))
part A pins: 3 B0, B^0 (io) "General purpose I/O.", 4 B2, B^1 (io) "General purpose I/O.", 5 B4, B^2 (io) "General purpose I/O.", 6 B6, B^3 (io) "General purpose I/O.", 8 B8, B^4 (io) "General purpose I/O.", 9 B10, B^5 (io) "General purpose I/O.", 10 B12, B^6 (io) "General purpose I/O.", 11 B13, B^7 (io) "General purpose I/O.", 14 C14, C^7 (io) "General purpose I/O.", 15 C12, C^6 (io) "General purpose I/O.", 16 C10, C^5 (io) "General purpose I/O.", 17 C8, C^4 (io) "General purpose I/O.", 19 C6, C^3 (io) "General purpose I/O.", 20 C5, C^2 (io) "General purpose I/O.", 21 C4, C^1 (io) "General purpose I/O.", 22 C2, C^0 (io) "General purpose I/O.", 28 D13, D^7 (io) "General purpose I/O.", 29 D12, D^6 (io) "General purpose I/O.", 30 D10, D^5 (io) "General purpose I/O.", 31 D8, D^4 (io) "General purpose I/O.", 34 D6, D^3 (io) "General purpose I/O.", 35 D4, D^2 (io) "General purpose I/O.", 36 D2, D^1 (io) "General purpose I/O.", 37 D0, D^0 (io) "General purpose I/O.", 91 A0/GOE0, A^0 (io) "Either Global Output Enable Input or general I/O.", 92 A2, A^1 (io) "General purpose I/O.", 93 A4, A^2 (io) "General purpose I/O.", 94 A6, A^3 (io) "General purpose I/O.", 97 A8, A^4 (io) "General purpose I/O.", 98 A10, A^5 (io) "General purpose I/O.", 99 A12, A^6 (io) "General purpose I/O.", 100 A14, A^7 (io) "General purpose I/O."
part B pins: 41 E0, E^0 (io) "General purpose I/O.", 42 E2, E^1 (io) "General purpose I/O.", 43 E4, E^2 (io) "General purpose I/O.", 44 E6, E^3 (io) "General purpose I/O.", 47 E8, E^4 (io) "General purpose I/O.", 48 E10, E^5 (io) "General purpose I/O.", 49 E12, E^6 (io) "General purpose I/O.", 50 E14, E^7 (io) "General purpose I/O.", 53 F0, F^0 (io) "General purpose I/O.", 54 F2, F^1 (io) "General purpose I/O.", 55 F4, F^2 (io) "General purpose I/O.", 56 F6, F^3 (io) "General purpose I/O.", 58 F8, F^4 (io) "General purpose I/O.", 59 F10, F^5 (io) "General purpose I/O.", 60 F12, F^6 (io) "General purpose I/O.", 61 F13, F^7 (io) "General purpose I/O.", 64 G14, G^7 (io) "General purpose I/O.", 65 G12, G^6 (io) "General purpose I/O.", 66 G10, G^5 (io) "General purpose I/O.", 67 G8, G^4 (io) "General purpose I/O.", 69 G6, G^3 (io) "General purpose I/O.", 70 G5, G^2 (io) "General purpose I/O.", 71 G4, G^1 (io) "General purpose I/O.", 72 G2, G^0 (io) "General purpose I/O.", 78 H13, H^7 (io) "General purpose I/O.", 79 H12, H^6 (io) "General purpose I/O.", 80 H10, H^5 (io) "General purpose I/O.", 81 H8, H^4 (io) "General purpose I/O.", 84 H6, H^3 (io) "General purpose I/O.", 85 H4, H^2 (io) "General purpose I/O.", 86 H2, H^1 (io) "General purpose I/O.", 87 H0/GOE1, H^0 (io) "Either Global Output Enable Input or general I/O."
part C pins: 38 CLK1/I (in) "Either CLK input or input.", 39 CLK2/I (in) "Either CLK input or input.", 88 CLK3/I (in) "Either CLK input or input.", 89 CLK0/I (in) "Either CLK input or input."
part D pins: 2 TDI (in) "Test Data Input. Loads data into device using 1149.1 state machine.", 24 TCK (in) "Test Clock Input for 1149.1 state machine.", 52 TMS (in) "Test Mode Select Input to control 1149.1 state machine.", 74 TDO (out) "Test Data Output. Shifts data out of device using 1149.1."
part E pins: 13 VCCO (Bank0) (power) "Power supply pin for I/O bank.", 25 VCC (power) "Power supply for logic core and JTAG port.", 33 VCCO (Bank0) (power) "Power supply pin for I/O bank.", 40 VCC (power) "Power supply for logic core and JTAG port.", 45 VCCO (Bank1) (power) "Power supply pin for I/O bank.", 63 VCCO (Bank1) (power) "Power supply pin for I/O bank.", 75 VCC (power) "Power supply for logic core and JTAG port.", 83 VCCO (Bank1) (power) "Power supply pin for I/O bank.", 90 VCC (power) "Power supply for logic core and JTAG port.", 95 VCCO (Bank0) (power) "Power supply pin for I/O bank."
part F pins: 1 GND (power) "Ground", 7 GND (Bank0) (power) "I/O Ground", 18 GND (Bank0) (power) "I/O Ground", 26 GND (power) "Ground", 32 GND (Bank0) (power) "I/O Ground", 46 GND (Bank1) (power) "I/O Ground", 51 GND (power) "Ground", 57 GND (Bank1) (power) "I/O Ground", 68 GND (Bank1) (power) "I/O Ground", 76 GND (power) "Ground", 82 GND (Bank1) (power) "I/O Ground", 96 GND (Bank0) (power) "I/O Ground"
part G pins: 12 I (in) "Input Signal Pin.", 23 I (in) "Input Signal Pin.", 27 I (in) "Input Signal Pin.", 62 I (in) "Input Signal Pin.", 73 I (in) "Input Signal Pin.", 77 I (in) "Input Signal Pin."
part A text: BANK 0
part B text: BANK 1

## LC4128C-75T128C
designator U?
ispMACH 4128 SuperFAST High Density PLD, 1.8 V, 92 User I/Os, 128-Pin TQFP, 7.5 ns, Commercial Grade; Published: 17-Dec-2003; LatestRevisionDate: 30-Mar-2007; LatestRevisionNote: Banks placed in parts.; DatasheetVersion: ver22.3, Mar-2007; PackageVersion: ver01.2 Feb-2007; PackageReference: TQFP128; Publisher: Altium Limited; PackageDescription: 128-Pin Thin Quad Flat Pack 0.4 mm Pitch (TQFP128); ComponentLink1Description: Manufacturer Link; ComponentLink1URL: http://www.latticesemi.com/; ComponentLink2Description: Datasheet; ComponentLink2URL: http://www.latticesemi.com/dynamic/view_document.cfm?document_id=3646
footprint TQFP128_N (Thin QFP, 128-Leads, Body 14x14mm, Pitch 0.4mm, IPC Medium Density)
footprint TQFP128_L (Thin QFP, 128-Leads, Body 14x14mm, Pitch 0.4mm, IPC High Density)
footprint TQFP128_M (Thin QFP, 128-Leads, Body 14x14mm, Pitch 0.4mm, IPC Low Density)
3D model 4128C-TQFP128 (128-Pin Thin Quad Flat Pack 0.4 mm Pitch (TQFP128))
part A pins: 4 B0, B^0 (io) "General purpose I/O.", 5 B1, B^1 (io) "General purpose I/O.", 6 B2, B^2 (io) "General purpose I/O.", 7 B4, B^3 (io) "General purpose I/O.", 8 B5, B^4 (io) "General purpose I/O.", 9 B6, B^5 (io) "General purpose I/O.", 11 B8, B^6 (io) "General purpose I/O.", 12 B9, B^7 (io) "General purpose I/O.", 13 B10, B^8 (io) "General purpose I/O.", 14 B12, B^9 (io) "General purpose I/O.", 15 B13, B^10 (io) "General purpose I/O.", 16 B14, B^11 (io) "General purpose I/O.", 18 C14, C^11 (io) "General purpose I/O.", 19 C13, C^10 (io) "General purpose I/O.", 20 C12, C^9 (io) "General purpose I/O.", 21 C10, C^8 (io) "General purpose I/O.", 22 C9, C^7 (io) "General purpose I/O.", 23 C8, C^6 (io) "General purpose I/O.", 25 C6, C^5 (io) "General purpose I/O.", 26 C5, C^4 (io) "General purpose I/O.", 27 C4, C^3 (io) "General purpose I/O.", 28 C2, C^2 (io) "General purpose I/O.", 29 C0, C^0 (io) "General purpose I/O.", 34 D14, D^11 (io) "General purpose I/O.", 35 D13, D^10 (io) "General purpose I/O.", 36 D12, D^9 (io) "General purpose I/O.", 37 D10, D^8 (io) "General purpose I/O.", 38 D9, D^7 (io) "General purpose I/O.", 39 D8, D^6 (io) "General purpose I/O.", 42 D6, D^5 (io) "General purpose I/O.", 43 D5, D^4 (io) "General purpose I/O.", 44 D4, D^3 (io) "General purpose I/O.", 45 D2, D^2 (io) "General purpose I/O.", 46 D1, D^1 (io) "General purpose I/O.", 47 D0, D^0 (io) "General purpose I/O.", 116 A0/GOE0, A^0 (io) "Either Global Output Enable Input or general I/O.", 117 A1, A^1 (io) "General purpose I/O.", 118 A2, A^2 (io) "General purpose I/O.", 119 A4, A^3 (io) "General purpose I/O.", 120 A5, A^4 (io) "General purpose I/O.", 121 A6, A^5 (io) "General purpose I/O.", 124 A8, A^6 (io) "General purpose I/O.", 125 A9, A^7 (io) "General purpose I/O.", 126 A10, A^8 (io) "General purpose I/O.", 127 A12, A^9 (io) "General purpose I/O.", 128 A14, A^11 (io) "General purpose I/O."
part B pins: 52 E0, E^0 (io) "General purpose I/O.", 53 E1, E^1 (io) "General purpose I/O.", 54 E2, E^2 (io) "General purpose I/O.", 55 E4, E^3 (io) "General purpose I/O.", 56 E5, E^4 (io) "General purpose I/O.", 57 E6, E^5 (io) "General purpose I/O.", 60 E8, E^6 (io) "General purpose I/O.", 61 E9, E^7 (io) "General purpose I/O.", 62 E10, E^8 (io) "General purpose I/O.", 63 E12, E^9 (io) "General purpose I/O.", 64 E14, E^11 (io) "General purpose I/O.", 68 F0, F^0 (io) "General purpose I/O.", 69 F1, F^1 (io) "General purpose I/O.", 70 F2, F^2 (io) "General purpose I/O.", 71 F4, F^3 (io) "General purpose I/O.", 72 F5, F^4 (io) "General purpose I/O.", 73 F6, F^5 (io) "General purpose I/O.", 75 F8, F^6 (io) "General purpose I/O.", 76 F9, F^7 (io) "General purpose I/O.", 77 F10, F^8 (io) "General purpose I/O.", 78 F12, F^9 (io) "General purpose I/O.", 79 F13, F^10 (io) "General purpose I/O.", 80 F14, F^11 (io) "General purpose I/O.", 82 G14, G^11 (io) "General purpose I/O.", 83 G13, G^10 (io) "General purpose I/O.", 84 G12, G^9 (io) "General purpose I/O.", 85 G10, G^8 (io) "General purpose I/O.", 86 G9, G^7 (io) "General purpose I/O.", 87 G8, G^6 (io) "General purpose I/O.", 89 G6, G^5 (io) "General purpose I/O.", 90 G5, G^4 (io) "General purpose I/O.", 91 G4, G^3 (io) "General purpose I/O.", 92 G2, G^2 (io) "General purpose I/O.", 93 G0, G^0 (io) "General purpose I/O.", 98 H14, H^11 (io) "General purpose I/O.", 99 H13, H^10 (io) "General purpose I/O.", 100 H12, H^9 (io) "General purpose I/O.", 101 H10, H^8 (io) "General purpose I/O.", 102 H9, H^7 (io) "General purpose I/O.", 103 H8, H^6 (io) "General purpose I/O.", 106 H6, H^5 (io) "General purpose I/O.", 107 H5, H^4 (io) "General purpose I/O.", 108 H4, H^3 (io) "General purpose I/O.", 109 H2, H^2 (io) "General purpose I/O.", 110 H1, H^1 (io) "General purpose I/O.", 111 H0/GOE1, H^0 (io) "Either Global Output Enable Input or general I/O."
part C pins: 48 CLK1/I (in) "Either CLK input or input.", 50 CLK2/I (in) "Either CLK input or input.", 112 CLK3/I (in) "Either CLK input or input.", 114 CLK0/I (in) "Either CLK input or input."
part D pins: 2 TDI (in) "Test Data Input. Loads data into device using 1149.1 state machine.", 31 TCK (in) "Test Clock Input for 1149.1 state machine.", 66 TMS (in) "Test Mode Select Input to control 1149.1 state machine.", 95 TDO (out) "Test Data Output. Shifts data out of device using 1149.1."
part E pins: 3 VCCO (Bank0) (power) "Power supply pin for I/O bank.", 17 VCCO (Bank0) (power) "Power supply pin for I/O bank.", 30 VCCO (Bank0) (power) "Power supply pin for I/O bank.", 32 VCC (power) "Power supply for logic core and JTAG port.", 41 VCCO (Bank0) (power) "Power supply pin for I/O bank.", 51 VCC (power) "Power supply for logic core and JTAG port.", 58 VCCO (Bank1) (power) "Power supply pin for I/O bank.", 67 VCCO (Bank1) (power) "Power supply pin for I/O bank.", 81 VCCO (Bank1) (power) "Power supply pin for I/O bank.", 94 VCCO (Bank1) (power) "Power supply pin for I/O bank.", 96 VCC (power) "Power supply for logic core and JTAG port.", 105 VCCO (Bank1) (power) "Power supply pin for I/O bank.", 115 VCC (power) "Power supply for logic core and JTAG port.", 122 VCCO (Bank0) (power) "Power supply pin for I/O bank."
part F pins: 1 GND (power) "Ground", 10 GND (Bank0) (power) "I/O Ground", 24 GND (Bank0) (power) "I/O Ground", 33 GND (power) "Ground", 40 GND (Bank0) (power) "I/O Ground", 49 GND (Bank1) (power) "I/O Ground", 59 GND (Bank1) (power) "I/O Ground", 65 GND (power) "Ground", 74 GND (Bank1) (power) "I/O Ground", 88 GND (Bank1) (power) "I/O Ground", 97 GND (power) "Ground", 104 GND (Bank1) (power) "I/O Ground", 113 GND (Bank0) (power) "I/O Ground", 123 GND (Bank0) (power) "I/O Ground"
part A text: BANK 0
part B text: BANK 1